# Altium footprint library PcbLib1.PcbLib: 44 footprints (part 1 of 3)
Each footprint in its own frame and in the unit in brackets; x right, y up, seen from the top. Pads: shape width x height; smd on the part's side, far side on the other; paste and mask are expansions set on the pad; w line width, h text height; cw(c..) or ccw(c..) is an arc to the next point about the centre after c.
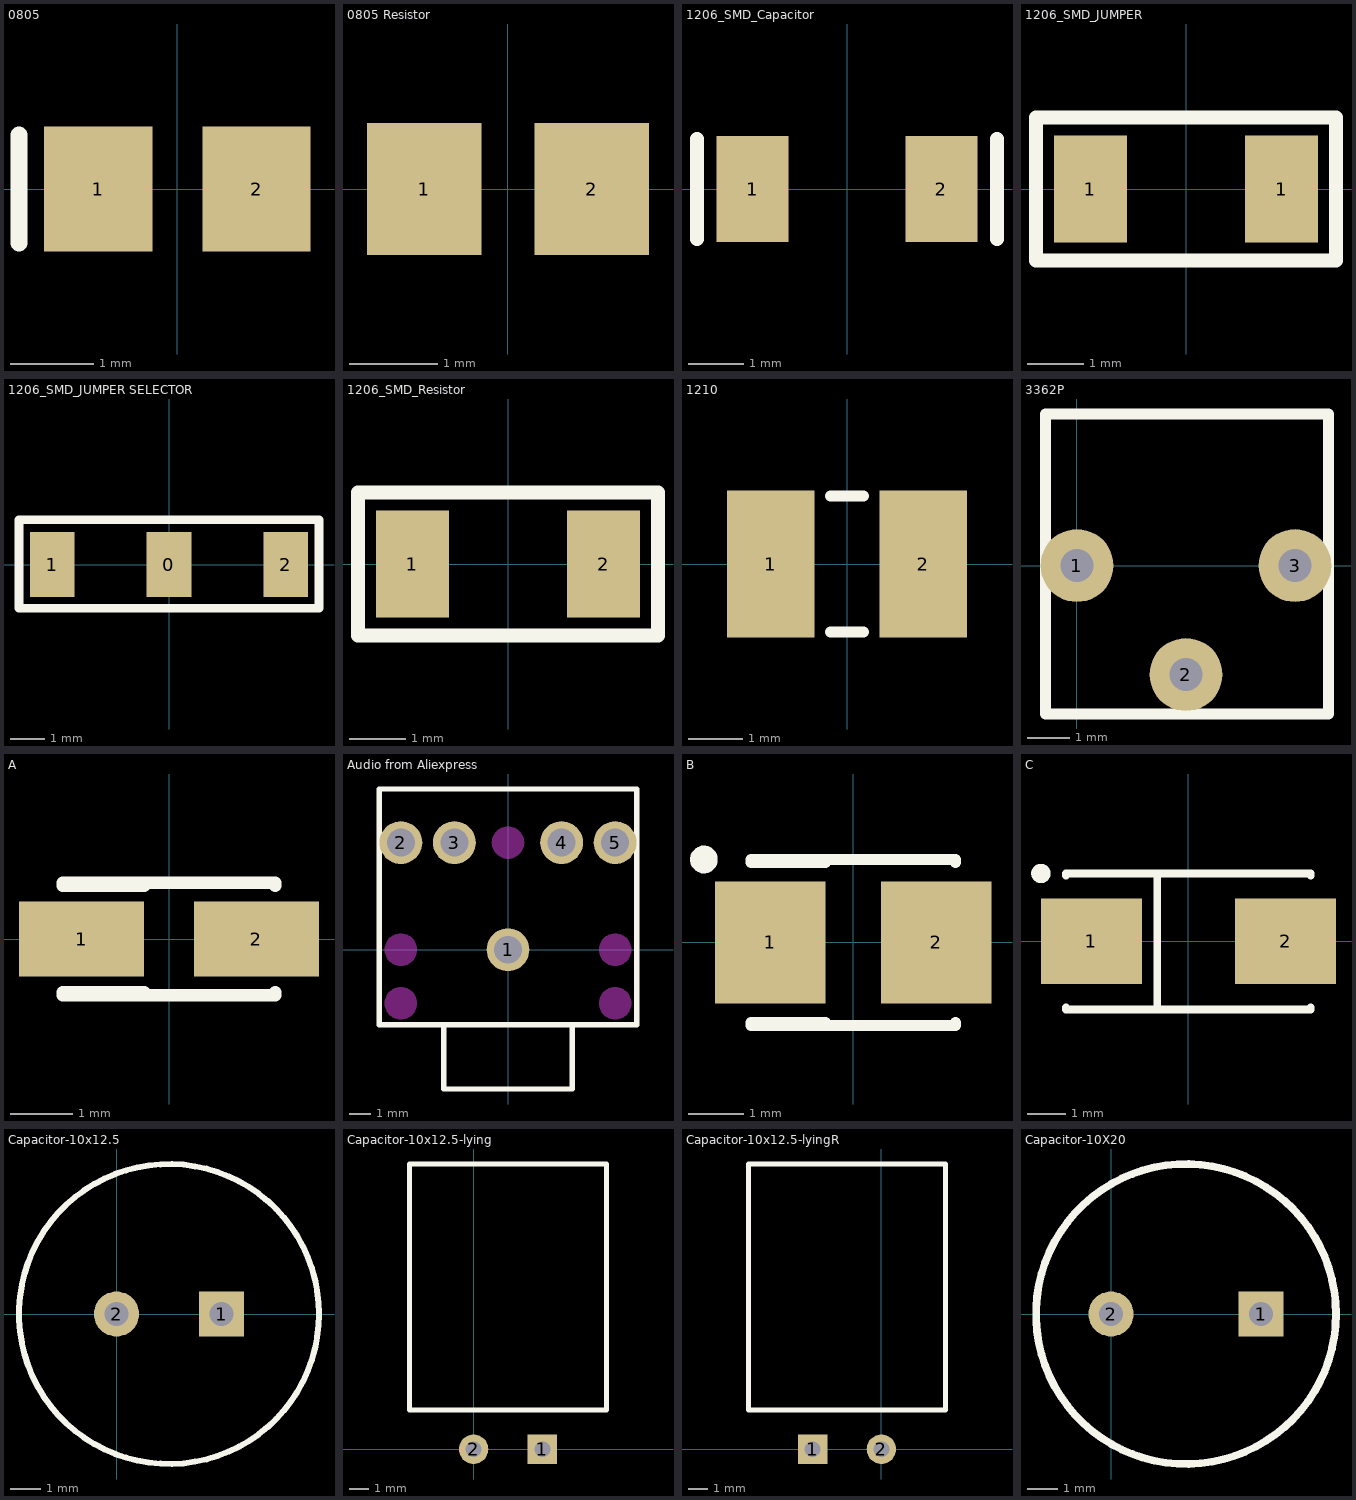
[diagram p0: the footprints below, top view; thin cyan lines are the x and y axes]

## 0805 [mm] "Chip Capacitor; Body 2.0 x 1.2 mm (LxW typ)"
height 1.3
pads (2):
  rect 1.3x1.5 smd: 1(-0.95,0) 2(0.95,0)
Top Overlay:
  lines w0.2: -1.9,-0.65 -1.9,0.65

## 0805 Resistor [mm] "Chip Resistor; Body 2 x 1.2 mm (LxW typ)"
height 0.7
pads (2):
  rect 1.3x1.5 smd: 1(-0.95,0) 2(0.95,0)

## 1206_SMD_Capacitor [mm]
pads (2):
  rect 1.3x1.9 smd: 1(-1.7,0) 2(1.7,0)
Top Overlay:
  lines w0.254: -2.7,-0.9 -2.7,0.9 ; 2.7,-0.9 2.7,0.9

## 1206_SMD_JUMPER [mm]
pads (2):
  rect 1.3x1.9 smd: 1(-1.7,0) 1(1.7,0)
Top Overlay:
  lines w0.254: -2.667,-1.27 -2.667,1.27 2.667,1.27 2.667,-1.27 -2.667,-1.27

## 1206_SMD_JUMPER SELECTOR [mm]
pads (3):
  rect 1.3x1.9 smd: 0(0,0) 1(-3.4,0) 2(3.4,0)
Top Overlay:
  lines w0.254: -4.367,-1.27 4.367,-1.27 4.367,1.3 -4.367,1.3 -4.367,-1.27

## 1206_SMD_Resistor [mm]
pads (2):
  rect 1.3x1.9 smd: 1(-1.7,0) 2(1.7,0)
Top Overlay:
  lines w0.254: -2.667,-1.27 -2.667,1.27 2.667,1.27 2.667,-1.27 -2.667,-1.27

## 1210 [mm] "Chip Resistor; Body 3.2 x 2.5 mm (LxW typ)"
height 0.7
pads (2):
  rect 1.6x2.7 smd: 1(-1.4,0) 2(1.4,0)
Top Overlay:
  lines w0.2: -0.3,-1.25 0.3,-1.25 ; -0.3,1.25 0.3,1.25

## 3362P [mm] "3362 - 1/4 ” Square Trimming Potentiometer"
pads (3):
  round 1.7 hole 0.762: 1(0,0) 2(2.54,-2.54) 3(5.08,0)
Top Overlay:
  lines w0.254: -0.737,-3.459 5.863,-3.459 5.863,3.531 -0.737,3.531 -0.737,-3.459

## A [mm] "Capacitor, SM Tantalum; Body 3.2 x 1.6 mm (LxW typ)"
height 1.8
pads (2):
  rect 2x1.2 smd: 1(-1.4,0) 2(1.4,0)
Top Overlay:
  lines w0.2: -1.7,-0.9 1.7,-0.9 1.7,-0.85 ; -1.7,-0.85 -0.4,-0.85 ; -1.7,0.85 -0.4,0.85 ; -1.7,0.9 1.7,0.9 1.7,0.85

## Audio from Aliexpress [mm] "3.5mm Stereo Jack Socket Audio Connector PCB Mount"
height 5
pads (10):
  round 2 hole 1.3: 1(0,0) 2(-5,5) 3(-2.5,5) 4(2.5,5) 5(5,5)
  round 1.524 on Keep-Out: ""(-5,-2.5) ""(-5,0) ""(0,5) ""(5,-2.5) ""(5,0)
Top Overlay:
  lines w0.254: -3,-3.5 -3,-6.5 3,-6.5 3,-3.5 ; -6,-3.5 -6,7.5 6,7.5 6,-3.5 -6,-3.5
3D body: height 5, standoff 0, extent -6,-3.5 6,7.5
3D body: height 5.5, standoff -0.5, extent -3,-6.5 3,-3.5

## B [mm] "Capacitor, SM Tantalum; Body 3.5 x 2.8 mm (LxW typ)"
height 2.1
pads (2):
  rect 2x2.2 smd: 1(-1.5,0) 2(1.5,0)
Top Overlay:
  circle w0.25: c-2.7,1.5 r0.125
  lines w0.2: -1.85,-1.5 1.85,-1.5 1.85,-1.45 ; -1.85,-1.45 -0.5,-1.45 ; -1.85,1.45 -0.5,1.45 ; -1.85,1.5 1.85,1.5 1.85,1.45

## C [mm] "Capacitor, SM Tantalum; Body 6.0 x 3.2 mm (LxW typ)"
height 2.8
pads (2):
  rect 2.6x2.2 smd: 1(-2.5,0) 2(2.5,0)
Top Overlay:
  circle w0.25: c-3.8,1.75 r0.125
  lines w0.2: -3.15,-1.7 -3.15,-1.75 3.15,-1.75 3.15,-1.7 ; -3.15,1.7 -3.15,1.75 3.15,1.75 3.15,1.7 ; -0.8,-1.75 -0.8,1.75

## Capacitor-10x12.5 [mm]
height 12.5
pads (2):
  rect 1.5x1.5 hole 0.8: 1(3.5,0)
  round 1.5 hole 0.8: 2(0,0)
Top Overlay:
  circle w0.2: c1.75,0 r5

## Capacitor-10x12.5-lying [mm]
height 10
pads (2):
  rect 1.5x1.5 hole 0.8: 1(3.5,0)
  round 1.5 hole 0.8: 2(0,0)
Top Overlay:
  lines w0.254: -3.25,2 -3.25,14.5 6.75,14.5 6.75,2 -3.25,2

## Capacitor-10x12.5-lyingR [mm]
height 10
pads (2):
  rect 1.5x1.5 hole 0.8: 1(-3.5,0)
  round 1.5 hole 0.8: 2(0,0)
Top Overlay:
  lines w0.254: -6.75,2 -6.75,14.5 3.25,14.5 3.25,2 -6.75,2

## Capacitor-10X20 [mm]
height 20
pads (2):
  rect 1.5x1.5 hole 0.8: 1(5,0)
  round 1.5 hole 0.8: 2(0,0)
Top Overlay:
  circle w0.254: c2.5,0 r5